# Altium footprint library Passives.PcbLib: 66 footprints (part 3 of 5)
Each footprint in its own frame and in the unit in brackets; x right, y up, seen from the top. Pads: shape width x height; smd on the part's side, far side on the other; paste and mask are expansions set on the pad; w line width, h text height; cw(c..) or ccw(c..) is an arc to the next point about the centre after c.
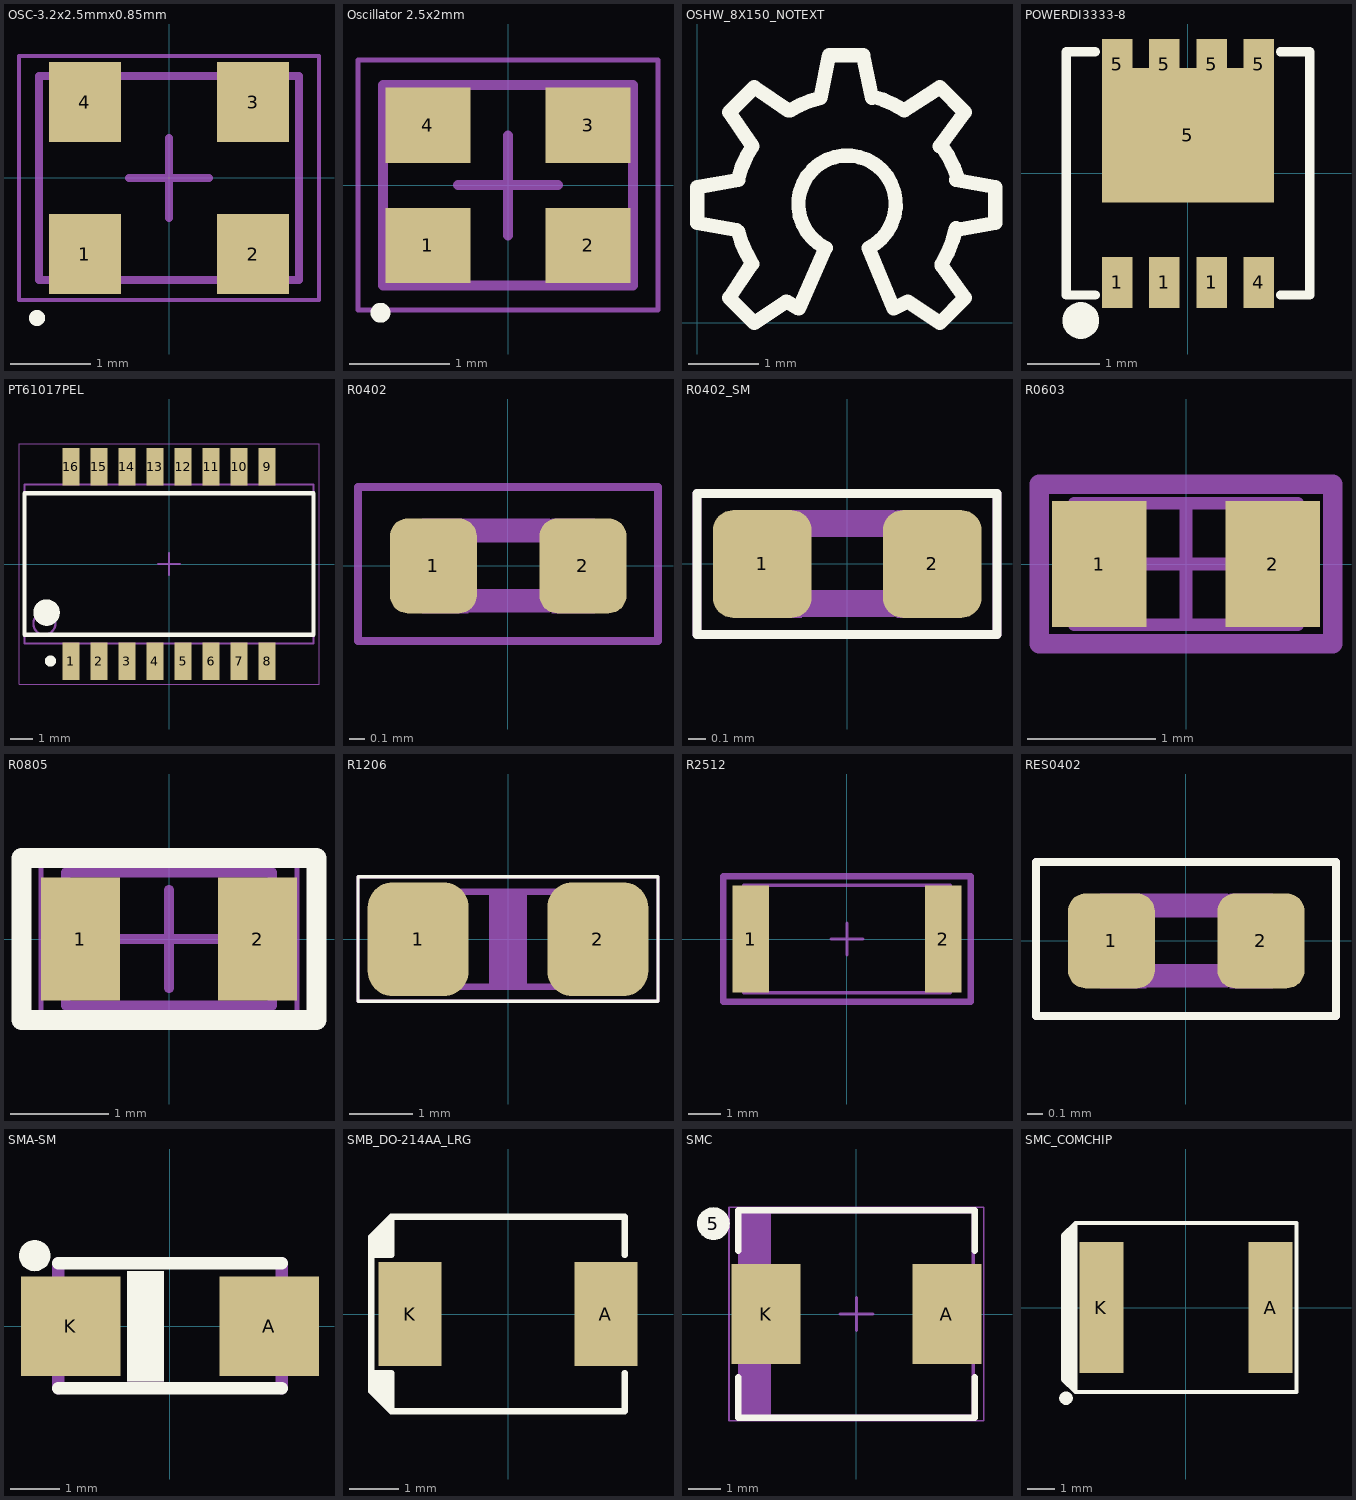
[diagram p2: the footprints below, top view; thin cyan lines are the x and y axes]

## OSC-3.2x2.5mmx0.85mm [mm] "Asemb"
height 0.9
pads (4):
  rect 0.9x1 smd: 1(-1.05,-0.95) 2(1.05,-0.95) 3(1.05,0.95) 4(-1.05,0.95)
Top Overlay:
  circle w0.1: c-1.65,-1.75 r0.05
Top Assembly:
  lines w0.1: -1.625,-1.275 1.625,-1.275 1.625,1.275 -1.625,1.275 -1.625,-1.275
Top Courtyard:
  lines w0.05: -1.875,-1.525 1.875,-1.525 1.875,1.525 -1.875,1.525 -1.875,-1.525
  lines w0.1: -0.5,0 0.5,0 ; 0,-0.5 0,0.5
3D body: height 0.9, standoff 0, extent -1.625,-1.275 1.625,1.275

## Oscillator 2.5x2mm [mm] "DFN, 4-Leads, Body 2.00x2.50mm, Pitch 1.60mm, IPC Medium Density"
height 0.7
pads (4):
  rect 0.85x0.75 smd: 1(-0.8,-0.6) 2(0.8,-0.6) 3(0.8,0.6) 4(-0.8,0.6)
Top Overlay:
  circle w0.1: c-1.275,-1.275 r0.05
Top Assembly:
  lines w0.1: -1.25,-1 -1.25,1 1.25,1 1.25,-1 -1.25,-1
Top Courtyard:
  lines w0.05: -1.5,-1.25 -1.5,1.25 1.5,1.25 1.5,-1.25 -1.5,-1.25
  lines w0.1: -0.5,0 0.5,0 ; 0,-0.5 0,0.5
3D body: height 0.7, standoff 0, extent -1.25,-1 1.25,1

## OSHW_8X150_NOTEXT [mm]
Top Overlay:
  lines w0.203: 0.559,1.321 0,1.422 0,1.93 0.584,2.032 ; 0.584,1.295 ccw(c2.098,1.695) 0.787,0.838 ; 0.584,2.057 cw(c2.071,1.67) 0.787,2.515 0.457,2.997 0.813,3.353 1.295,3.023 ; 0.762,0.813 0.457,0.356 0.813,0 1.27,0.305 1.448,0.203 1.829,1.067 cw(c2.134,1.689) 2.438,1.067 2.794,0.203 2.997,0.305 3.454,0 3.81,0.356 3.48,0.813 ; 1.321,3.023 cw(c2.114,1.71) 1.753,3.2 1.88,3.81 2.362,3.81 2.489,3.2 ; 2.489,3.226 cw(c2.069,1.663) 2.946,3.023 3.454,3.353 3.81,2.997 3.454,2.515 ; 3.48,0.838 ccw(c2.12,1.677) 3.683,1.346 ; 3.48,2.515 cw(c2.282,1.63) 3.708,2.057 ; 3.683,1.321 4.242,1.422 4.242,1.93 3.683,2.032
Mechanical 8:
  drawing of 191 lines, arcs and shapes, not listed
3D body: height 0, standoff 0, extent -0.002,0.051 4.267,3.759

## POWERDI3333-8 [mm]
pads (10):
  rect 0.42x0.7 smd mask+0.051: 1(-0.975,-1.5) 1(-0.325,-1.5) 1(0.325,-1.5) 4(0.975,-1.5) 5(-0.975,1.5) 5(-0.325,1.5) 5(0.325,1.5) 5(0.975,1.5)
  rect 2.37x1.85 smd mask+0.051: 5(0,0.525)
  round 0.508 on Top Overlay mask+0: ""(-1.475,-2.025)
Top Overlay:
  lines w0.127: -1.275,-1.675 -1.675,-1.675 -1.675,1.675 -1.275,1.675 ; 1.275,-1.675 1.675,-1.675 1.675,1.675 1.275,1.675

## PT61017PEL [mm] "PULSE XFMR 1CT:1CT 350UH"
height 5.65
pads (16):
  rect 0.76x1.7 smd: 1(-4.445,-4.4) 2(-3.175,-4.4) 3(-1.905,-4.4) 4(-0.635,-4.4) 5(0.635,-4.4) 6(1.905,-4.4) 7(3.175,-4.4) 8(4.445,-4.4) 9(4.445,4.4) 10(3.175,4.4) 11(1.905,4.4) 12(0.635,4.4) 13(-0.635,4.4) 14(-1.905,4.4) 15(-3.175,4.4) 16(-4.445,4.4)
Top Overlay:
  circle w0.25: c-5.375,-4.4 r0.125
  circle w0.6: c-5.55,-2.2 r0.3
  lines w0.2: -6.55,-3.2 6.55,-3.2 6.55,3.2 -6.55,3.2 -6.55,-3.2
Top Assembly:
  circle w0.1: c-5.65,-2.7 r0.5
  lines w0.1: -6.55,-3.6 6.55,-3.6 6.55,3.6 -6.55,3.6 -6.55,-3.6
Top Courtyard:
  lines w0.05: -6.8,-5.45 6.8,-5.45 6.8,5.45 -6.8,5.45 -6.8,-5.45
  lines w0.1: -0.5,0 0.5,0 ; 0,-0.5 0,0.5
3D body: height 5.65, standoff 0.12, extent -6.55,-3.6 6.55,3.6

## R0402 [mil]
pads (2):
  rrect40% 22x24 smd: 1(-18.9,0) 2(19,0)
Top Assembly:
  lines w6: -9.65,-8.82 10,-8.82 ; -9.65,9 10,9
Mechanical 8:
  rectangle: 11,-12 22,12
  rectangle: -21.81,-12 -10,12
Mechanical 15:
  lines w2: -37.99,-19.02 -37.99,20 38,20 38,-19.02 -37.99,-19.02
3D body: height 13.78, standoff 0, extent -20,-10 20,10

## R0402_SM [mil]
pads (2):
  rrect40% 22x24 smd mask+2: 1(-18.9,0) 2(19,0)
Top Overlay:
  lines w1.97: -33.46,-15.75 -33.46,15.75 33.46,15.75 33.46,-15.75 -33.46,-15.75
Mechanical 8:
  rectangle: 11,-12 22,12
  rectangle: -21.81,-12 -10,12
  lines w6: -9.65,-8.82 10,-8.82 ; -9.65,9 10,9
Mechanical 15:
  lines w2: -33.46,-15.75 -33.46,15.75 33.46,15.75 33.46,-15.75 -33.46,-15.75
3D body: height 13.78, standoff 0, extent -20,-10 20,10

## R0603 [mil]
height 21.65
pads (2):
  rect 29x39 smd: 1(-26.75,0) 2(26.75,0)
Mechanical 13:
  lines w3.94: -34.45,-18.7 34.45,-18.7 34.45,18.7 -34.45,18.7 -34.45,-18.7
Mechanical 15:
  lines w1.97: -43.31,-23.62 43.31,-23.62 43.31,23.62 -43.31,23.62 -43.31,-23.62
  lines w3.94: -18.7,0 18.7,0 ; 0,-18.7 0,18.7
  lines w6: -45.28,-24.61 45.28,-24.61 45.28,24.61 -45.28,24.61 -45.28,-24.61
3D body "R0603.step": height 21.65, standoff 0, extent -34.45,-18.7 34.45,18.7

## R0805 [mm]
height 0.6
pads (2):
  rect 0.8x1.25 smd mask+0.051: 1(-0.9,0) 2(0.9,0)
Top Overlay:
  lines w0.203: -1.5,-0.825 1.5,-0.825 1.5,0.825 -1.5,0.825 -1.5,-0.825
Mechanical 13:
  lines w0.1: -1.05,-0.675 1.05,-0.675 1.05,0.675 -1.05,0.675 -1.05,-0.675
Mechanical 15:
  lines w0.05: -1.3,-0.8 1.3,-0.8 1.3,0.8 -1.3,0.8 -1.3,-0.8
  lines w0.1: -0.5,0 0.5,0 ; 0,-0.5 0,0.5
3D body "R0805.step": height 0.6, standoff 0, extent -1.05,-0.675 1.05,0.675

## R1206 [mil]
pads (2):
  rrect50% 63x71 smd: 1(-55.98,0) 2(56,0)
Top Overlay:
  lines w2: -93.5,-38.7 93.5,-38.7 93.5,39 -93.5,39 -93.5,-38.7
Mechanical 6:
  rectangle: -11.82,-27.56 11.99,28
Mechanical 8:
  rectangle: 31.99,-31.49 60.99,31.5
  rectangle: -61.06,-31.49 -32.06,31.5
  lines w3.94: -40.35,29.53 35.65,29.53 ; -34.66,-29.53 41.34,-29.53
Mechanical 15:
  lines w2: -93.5,-38.7 -93.5,39 93.5,39 93.5,-38.7 -93.5,-38.7
3D body: height 23.62, standoff 0, extent -61.02,-31.5 61.02,31.5

## R2512 [mm]
height 0.65
pads (2):
  rect 1.15x3.35 smd: 1(-3,0) 2(3,0)
Mechanical 13:
  lines w0.1: -3.225,-1.675 -3.225,1.675 3.225,1.675 3.225,-1.675 -3.225,-1.675
Mechanical 15:
  lines w0.05: -3.85,-1.95 -3.85,1.95 3.85,1.95 3.85,-1.95 -3.85,-1.95
  lines w0.1: -0.5,0 0.5,0 ; 0,-0.5 0,0.5
  lines w0.203: -3.85,-1.95 -3.85,1.95 3.85,1.95 3.85,-1.95 -3.85,-1.95
3D body "R2512.step": height 0.65, standoff 0, extent -3.225,-1.675 3.225,1.675

## RES0402 [mil]
pads (2):
  rrect40% 22x24 smd: 1(-18.9,0) 2(19,0)
Top Overlay:
  lines w2: -37.99,-19.02 38,-19.02 38,20 -37.99,20 -37.99,-19.02
Mechanical 8:
  rectangle: 11,-12 22,12
  rectangle: -21.81,-12 -10,12
  lines w6: -9.65,-8.82 10,-8.82 ; -9.65,9 10,9
Mechanical 15:
  lines w2: -37.99,-19.02 -37.99,20 38,20 38,-19.02 -37.99,-19.02
3D body: height 13.78, standoff 0, extent -20,-10 20,10

## SMA-SM [mil]
pads (3):
  rect 79x79 smd: A(79,0) K(-78.74,0)
  round 25 on Top Overlay: ""(-107.28,56.1)
Top Overlay:
  rectangle: -34.06,-43.9 -4.53,44
  lines w10: -88.58,-49.21 89,-49.21 ; -88.58,50 89,50
Top Assembly:
  rectangle: 94,-32.48 111,32
  rectangle: -110.24,-31.5 -93.7,32
  rectangle: -34.06,-43.9 -4.53,44
  lines w10: -88.58,-49.21 -88.58,50 ; 89,-49.21 89,50
3D body: height 78.74, standoff 0, extent -105,-40 105,40
3D body: height 116.14, standoff 0, extent -93.58,-54.21 94,55

## SMB_DO-214AA_LRG [mil]
pads (2):
  rect 50x83 smd mask+2: A(78,0) K(-78,0)
Top Overlay:
  lines w5: -109,-47 -93,-47 -93,-77.5 ; -108,47 -93,47 -93,77.5 ; -105.5,-65 -105.5,-47.5 ; -105.5,47.5 -105.5,65 ; -102,47 -102,68.5 ; -101.5,-69 -101.5,-47.5 ; -97,-73.5 -97,-47 ; -97,47 -97,73.5 ; 93,-47 93,-77.5 -93,-77.5 ; 93,47 93,77.5 -93,77.5 ; -93,-77.5 -109,-61.5 -109,61.5 -93,77.5

## SMC [mm]
height 2.62
pads (3):
  round 1 on Top Overlay: 5(-4.35,2.75)
  rect 2.1x3.05 smd: A(2.75,0) K(-2.75,0)
Top Overlay:
  lines w0.2: -3.6,-1.925 -3.6,-3.15 3.6,-3.15 3.6,-1.925 ; -3.6,1.925 -3.6,3.15 3.6,3.15 3.6,1.925
Mechanical 13:
  rectangle: -3.555,-3.11 -2.599,3.11
  lines w0.1: -3.555,-3.11 3.555,-3.11 3.555,3.11 -3.555,3.11 -3.555,-3.11
Mechanical 15:
  lines w0.05: -3.875,-3.25 3.875,-3.25 3.875,3.25 -3.875,3.25 -3.875,-3.25
  lines w0.1: -0.5,0 0.5,0 ; 0,-0.5 0,0.5
3D body "SMC.step": height 2.62, standoff 0, extent -3.775,-3.11 3.775,3.11

## SMC_COMCHIP [mm]
pads (3):
  rect 1.6x4.8 smd mask+0.051: A(3.1,0) K(-3.1,0)
  round 0.5 on Top Overlay mask+0.051: ""(-4.4,-3.325)
Top Overlay:
  lines w0.152: -4.425,-2.725 -4.425,2.725 ; -4.325,-2.825 -4.325,2.825 ; -4.175,-2.975 -4.175,2.975 ; -4.05,-3.1 -4.05,3.1 ; -4.05,-3.1 4.05,-3.1 4.05,3.1 -4.05,3.1 ; -4.05,-3.1 -4.5,-2.65 -4.5,2.65 -4.05,3.1